# EAGLE library part MAX13443EASA (library MAX13443EASA)
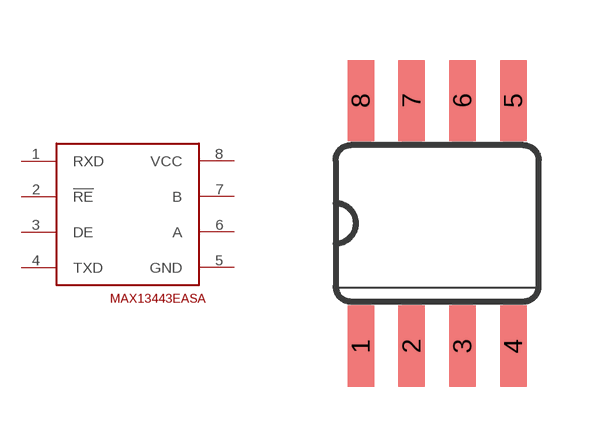
[diagram p0: symbol with the pads of SO08; footprint SO08]

Designator prefix -

## MAX13443EASA  [SO08]
1  RXD
2  !RE
3  DE
4  TXD
5  GND
6  A
7  B
8  VCC

## Footprint SO08 (pad centres in mm)
Small Outline Package SOIC 150 mil
smd 0.66 x 2.032: 1 -1.905,-3.073; 2 -0.635,-3.073; 3 0.635,-3.073; 4 1.905,-3.073; 5 1.905,3.073; 6 0.635,3.073; 7 -0.635,3.073; 8 -1.905,3.073